# EAGLE library part M07 (library jt_parts)
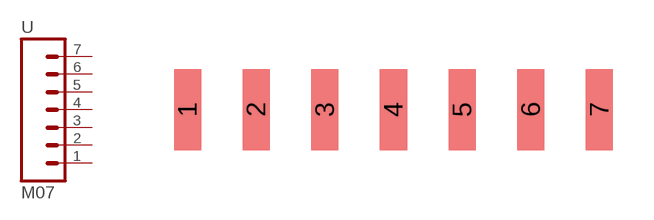
[diagram p7: symbol with the pads of M07-SMD; footprint M07-SMD]

Designator prefix -

## M07  [M07-SMD]
1  1  pas
2  2  pas
3  3  pas
4  4  pas
5  5  pas
6  6  pas
7  7  pas

## Footprint M07-SMD (pad centres in mm)
smd 1 x 3: 1 -7.62,-0.08; 2 -5.08,-0.08; 3 -2.54,-0.08; 4 0,-0.08; 5 2.54,-0.08; 6 5.08,-0.08; 7 7.62,-0.08